# EAGLE library part TD62783 (library candrian)
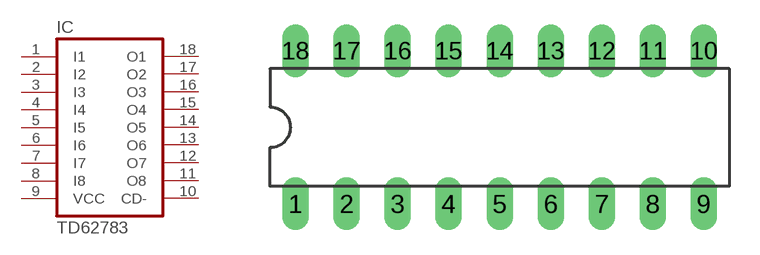
[diagram p17: symbol with the pads of DIL18; footprint DIL18]

Designator prefix IC

## TD62783  [DIL18]
1  I1  in
2  I2  in
3  I3  in
4  I4  in
5  I5  in
6  I6  in
7  I7  in
8  I8  in
9  VCC  pwr
10  CD-  pas
11  O8  oc
12  O7  oc
13  O6  oc
14  O5  oc
15  O4  oc
16  O3  oc
17  O2  oc
18  O1  oc

## Footprint DIL18 (pad centres in mm)
drill 0.813 long: 1 -8.89,-3.81; 2 -6.35,-3.81; 3 -3.81,-3.81; 4 -1.27,-3.81; 5 1.27,-3.81; 6 3.81,-3.81; 7 6.35,-3.81; 8 8.89,-3.81; 9 11.43,-3.81; 10 11.43,3.81; 11 8.89,3.81; 12 6.35,3.81; 13 3.81,3.81; 14 1.27,3.81; 15 -1.27,3.81; 16 -3.81,3.81; 17 -6.35,3.81; 18 -8.89,3.81